# EAGLE library part AT25SF128A-SHB-T (library AT25SF128A-SHB-T)
4Mbit, 1.65V - 3.6V Range, SPI Serial Flash Memory with Multy-I/O Support.
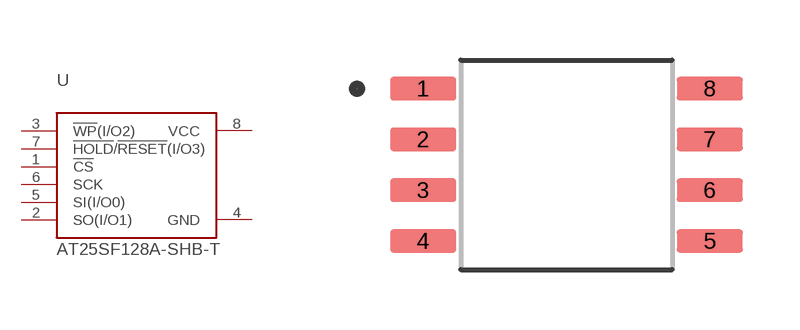
[diagram p0: symbol with the pads of SOIC127P790X216-8N; footprint SOIC127P790X216-8N]

Designator prefix U

## AT25SF128A-SHB-T (DESCRIPTION: 128 Mbit, 3.0V (2.7V to 3.6V), -40C to 85C, SOIC-W 208mil (Tape & Reel), Single, Dual, Quad SPI NOR flash; MF: Dialog Semiconductor; MP: AT25SF128A-SHB-T; PACKAGE: SOIC-8 Dialog Semiconductor; PURCHASE-URL: https://pricing.snapeda.com/search/part/AT25SF128A-SHB-T/?ref=eda)  [SOIC127P790X216-8N]
1  !CS  in
2  SO(I/O1)
3  !WP!(I/O2)
4  GND  pwr
5  SI(I/O0)
6  SCK  in
7  !HOLD!/!RESET!(I/O3)
8  VCC  pwr

## Footprint SOIC127P790X216-8N (pad centres in mm)
smd 1.65 x 0.58: 1 -3.585,1.905; 2 -3.585,0.635; 3 -3.585,-0.635; 4 -3.585,-1.905; 5 3.585,-1.905; 6 3.585,-0.635; 7 3.585,0.635; 8 3.585,1.905